# EAGLE library part LTC3810 (library PowerProducts)
100V Current Mode Synchronous Switching Regulator Controller
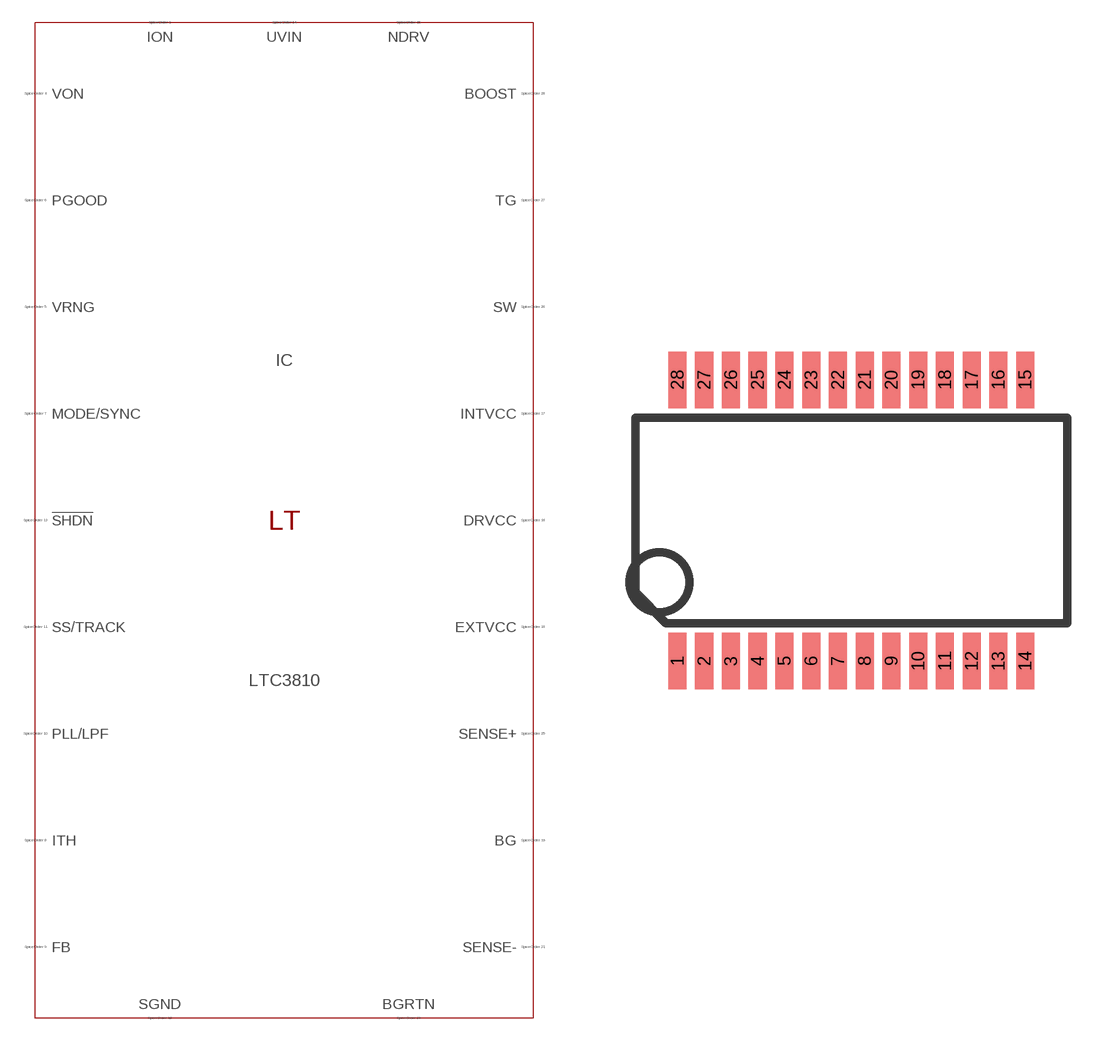
[diagram p342: symbol with the pads of SSOP28(G); footprint SSOP28(G)]

Designator prefix IC

## LTC3810 (SPICEMODEL: LTC3810.sub; SPICEPREFIX: X; VALUE2: LTC3810)  [SSOP28(G)]
1  ION  pas
4  VON  pas
5  VRNG  pas
6  PGOOD  pas
7  MODE/SYNC  pas
8  ITH  pas
9  FB  pas
10  PLL/LPF  pas
11  SS/TRACK  pas
12  SGND  pas
13  !SHDN  pas
14  UVIN  pas
15  NDRV  pas
16  EXTVCC  pas
17  INTVCC  pas
18  DRVCC  pas
19  BG  pas
20  BGRTN  pas
21  SENSE-  pas
25  SENSE+  pas
26  SW  pas
27  TG  pas
28  BOOST  pas

## Footprint SSOP28(G) (pad centres in mm)
Package generated from: SSOP28(G).asc (!PADS-POWERPCB-V5.0-BASIC! DESIGN DATABASE ASCII FILE 1.0) with :import-pads-powerpcb-v5.ulp Version 1.0.1 at 04.10.2012 14:11:39
smd 0.66 x 2.055: 1 -6.338,-5.122; 2 -5.362,-5.122; 3 -4.388,-5.122; 4 -3.413,-5.122; 5 -2.438,-5.122; 6 -1.462,-5.122; 7 -0.487,-5.122; 8 0.487,-5.122; 9 1.462,-5.122; 10 2.438,-5.122; 11 3.413,-5.122; 12 4.388,-5.122; 13 5.362,-5.122; 14 6.338,-5.122; 15 6.338,5.122; 16 5.362,5.122; 17 4.388,5.122; 18 3.413,5.122; 19 2.438,5.122; 20 1.462,5.122; 21 0.487,5.122; 22 -0.487,5.122; 23 -1.462,5.122; 24 -2.438,5.122; 25 -3.413,5.122; 26 -4.388,5.122; 27 -5.362,5.122; 28 -6.338,5.122